# Altium footprint library STM32F407VET6mini核心板--整体封装库.PcbLib: 1 footprints
Each footprint in its own frame and in the unit in brackets; x right, y up, seen from the top. Pads: shape width x height; smd on the part's side, far side on the other; paste and mask are expansions set on the pad; w line width, h text height; cw(c..) or ccw(c..) is an arc to the next point about the centre after c.
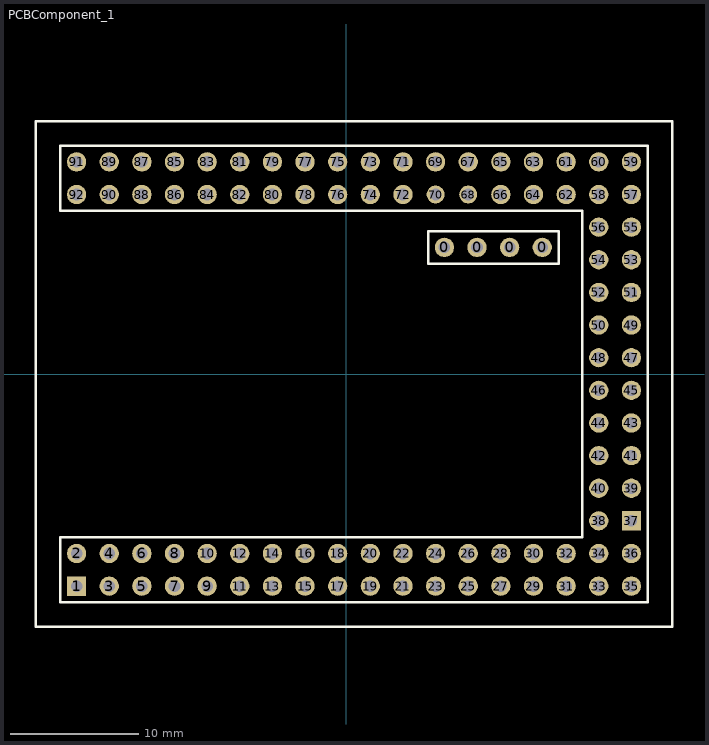
[diagram p0: the footprint, top view; thin cyan lines are the x and y axes]

## PCBComponent_1 [mm]
pads (96):
  round 1.5 hole 0.9: 0(7.633,9.855) 0(10.173,9.855) 0(12.713,9.855) 0(15.253,9.855) 2(-20.993,-13.97) 3(-18.453,-16.51) 4(-18.453,-13.97) 5(-15.913,-16.51) 6(-15.913,-13.97) 7(-13.373,-16.51) 8(-13.373,-13.97) 9(-10.833,-16.51) 10(-10.833,-13.97) 11(-8.293,-16.51) 12(-8.293,-13.97) 13(-5.753,-16.51) 14(-5.753,-13.97) 15(-3.213,-16.51) 16(-3.213,-13.97) 17(-0.673,-16.51) 18(-0.673,-13.97) 19(1.867,-16.51) 20(1.867,-13.97) 21(4.407,-16.51) 22(4.407,-13.97) 23(6.947,-16.51) 24(6.947,-13.97) 25(9.487,-16.51) 26(9.487,-13.97) 27(12.027,-16.51) 28(12.027,-13.97) 29(14.567,-16.51) 30(14.567,-13.97) 31(17.107,-16.51) 32(17.107,-13.97) 33(19.647,-16.51) 34(19.647,-13.97) 35(22.187,-16.51) 36(22.187,-13.97) 38(19.647,-11.43) 39(22.187,-8.89) 40(19.647,-8.89) 41(22.187,-6.35) 42(19.647,-6.35) 43(22.187,-3.81) 44(19.647,-3.81) 45(22.187,-1.27) 46(19.647,-1.27) 47(22.187,1.27) 48(19.647,1.27) 49(22.187,3.81) 50(19.647,3.81) 51(22.187,6.35) 52(19.647,6.35) 53(22.187,8.89) 54(19.647,8.89) 55(22.187,11.43) 56(19.647,11.43) 57(22.187,13.97) 58(19.647,13.97) 59(22.187,16.51) 60(19.647,16.51) 61(17.107,16.51) 62(17.107,13.97) 63(14.567,16.51) 64(14.567,13.97) 65(12.027,16.51) 66(12.027,13.97) 67(9.487,16.51) 69(6.947,16.51) 71(4.407,16.51) 72(4.407,13.97) 73(1.867,16.51) 74(1.867,13.97) 75(-0.673,16.51) 76(-0.673,13.97) 77(-3.213,16.51) 78(-3.213,13.97) 79(-5.753,16.51) 80(-5.753,13.97) 81(-8.293,16.51) 82(-8.293,13.97) 83(-10.833,16.51) 84(-10.833,13.97) 85(-13.373,16.51) 86(-13.373,13.97) 87(-15.913,16.51) 88(-15.913,13.97) 89(-18.453,16.51) 90(-18.453,13.97) 91(-20.993,16.51) 92(-20.993,13.97)
  rect 1.5x1.5 hole 0.9: 1(-20.993,-16.51) 37(22.187,-11.43)
  round 1.4 hole 0.9: 68(9.487,13.97) 70(6.947,13.97)
Top Overlay:
  lines w0.2: -22.263,-17.78 23.457,-17.78 23.457,-12.7 23.457,-10.795 23.457,12.7 23.457,17.78 -22.263,17.78 -22.263,12.7 18.377,12.7 18.377,-10.795 18.377,-12.7 -22.263,-12.7 -22.263,-17.78 ; 6.363,8.585 16.523,8.585 16.523,11.125 6.363,11.125 6.363,8.585
  lines w0.203: -24.168,-19.685 -24.168,19.685 25.362,19.685 25.362,-19.685 -24.168,-19.685